# EAGLE library part NANO (library dpx-Microcontroller)
Arduino Nano
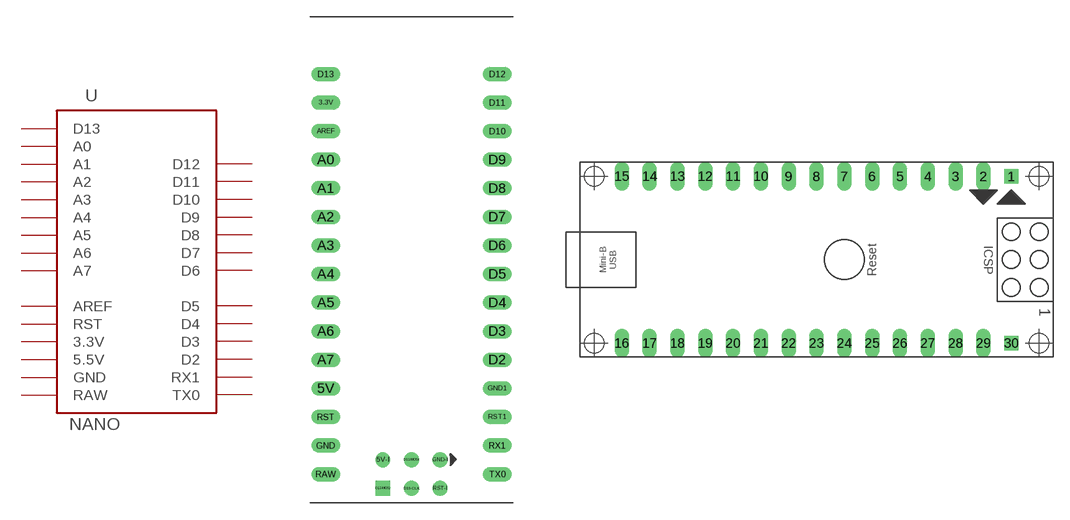
[diagram p7: symbol with the pads of NANO; footprints NANO, ARDUINO_NANO]

Designator prefix -

## NANONAN-SPI  [NANO]
3.3V  3.3V
5V  5.5V
5V-I  5.5V
A0  A0
A1  A1
A2  A2
A3  A3
A4  A4
A5  A5
A6  A6
A7  A7
AREF  AREF
D2  D2
D3  D3
D4  D4
D5  D5
D6  D6
D7  D7
D8  D8
D9  D9
D10  D10
D11  D11
D11-MOSI  D11
D12  D12
D12-MOSI  D12
D13  D13
D13-CLK  D13
GND  GND
GND1  GND
GND-I  GND
RAW  RAW
RST  RST
RST1  RST
RST-I  RST
RX1  RX1
TX0  TX0

## NANONANO  [ARDUINO_NANO]
1  TX0
2  RX1
3  RST
4  GND
5  D2
6  D3
7  D4
8  D5
9  D6
10  D7
11  D8
12  D9
13  D10
14  D11
15  D12
16  D13
17  3.3V
18  AREF
19  A0
20  A1
21  A2
22  A3
23  A4
24  A5
25  A6
26  A7
27  5.5V
28  RST
29  GND
30  RAW

## NANO  [NANO-NOICSP]
3.3V  3.3V
5V  5.5V
A0  A0
A1  A1
A2  A2
A3  A3
A4  A4
A5  A5
A6  A6
A7  A7
AREF  AREF
D2  D2
D3  D3
D4  D4
D5  D5
D6  D6
D7  D7
D8  D8
D9  D9
D10  D10
D11  D11
D12  D12
D13  D13
GND  GND
GND1  GND
RAW  RAW
RST  RST
RST1  RST
RX1  RX1
TX0  TX0

## Footprint NANO (pad centres in mm)
drill 0.8 long: 3.3V -7.62,15.24; 5V -7.62,-10.16; A0 -7.62,10.16; A1 -7.62,7.62; A2 -7.62,5.08; A3 -7.62,2.54; A4 -7.62,0; A5 -7.62,-2.54; A6 -7.62,-5.08; A7 -7.62,-7.62; AREF -7.62,12.7; D2 7.62,-7.62; D3 7.62,-5.08; D4 7.62,-2.54; D5 7.62,0; D6 7.62,2.54; D7 7.62,5.08; D8 7.62,7.62; D9 7.62,10.16; D10 7.62,12.7; D11 7.62,15.24; D12 7.62,17.78; D13 -7.62,17.78; GND -7.62,-15.24; GND1 7.62,-10.16; RAW -7.62,-17.78; RST -7.62,-12.7; RST1 7.62,-12.7; RX1 7.62,-15.24; TX0 7.62,-17.78
drill 0.8: 5V-I -2.54,-16.51; D11-MOSI 0,-16.51; D13-CLK 0,-19.05; GND-I 2.54,-16.51; RST-I 2.54,-19.05
drill 0.8 square: D12-MOSI -2.54,-19.05

## Footprint ARDUINO_NANO (pad centres in mm)
Arduino Nano V3.0 Module The Nano was designed and is being produced by Gravitech <http://www.gravitech.us/arna30wiatp.html>.
drill 0.8 square: 1 15.24,7.62; 30 15.24,-7.62
drill 0.8 long: 2 12.7,7.62; 3 10.16,7.62; 4 7.62,7.62; 5 5.08,7.62; 6 2.54,7.62; 7 0,7.62; 8 -2.54,7.62; 9 -5.08,7.62; 10 -7.62,7.62; 11 -10.16,7.62; 12 -12.7,7.62; 13 -15.24,7.62; 14 -17.78,7.62; 15 -20.32,7.62; 16 -20.32,-7.62; 17 -17.78,-7.62; 18 -15.24,-7.62; 19 -12.7,-7.62; 20 -10.16,-7.62; 21 -7.62,-7.62; 22 -5.08,-7.62; 23 -2.54,-7.62; 24 0,-7.62; 25 2.54,-7.62; 26 5.08,-7.62; 27 7.62,-7.62; 28 10.16,-7.62; 29 12.7,-7.62
hole 1.778 at -22.86,-7.62
hole 1.778 at -22.86,7.62
hole 1.778 at 17.78,7.62
hole 1.778 at 17.78,-7.62

## Footprint NANO-NOICSP (pad centres in mm)
drill 0.8 long: 3.3V -7.62,15.24; 5V -7.62,-10.16; A0 -7.62,10.16; A1 -7.62,7.62; A2 -7.62,5.08; A3 -7.62,2.54; A4 -7.62,0; A5 -7.62,-2.54; A6 -7.62,-5.08; A7 -7.62,-7.62; AREF -7.62,12.7; D2 7.62,-7.62; D3 7.62,-5.08; D4 7.62,-2.54; D5 7.62,0; D6 7.62,2.54; D7 7.62,5.08; D8 7.62,7.62; D9 7.62,10.16; D10 7.62,12.7; D11 7.62,15.24; D12 7.62,17.78; D13 -7.62,17.78; GND -7.62,-15.24; GND1 7.62,-10.16; RAW -7.62,-17.78; RST -7.62,-12.7; RST1 7.62,-12.7; RX1 7.62,-15.24; TX0 7.62,-17.78